# Altium footprint library Battery 18650 Holder SMD.PcbLib: 1 footprints
Each footprint in its own frame and in the unit in brackets; x right, y up, seen from the top. Pads: shape width x height; smd on the part's side, far side on the other; paste and mask are expansions set on the pad; w line width, h text height; cw(c..) or ccw(c..) is an arc to the next point about the centre after c.
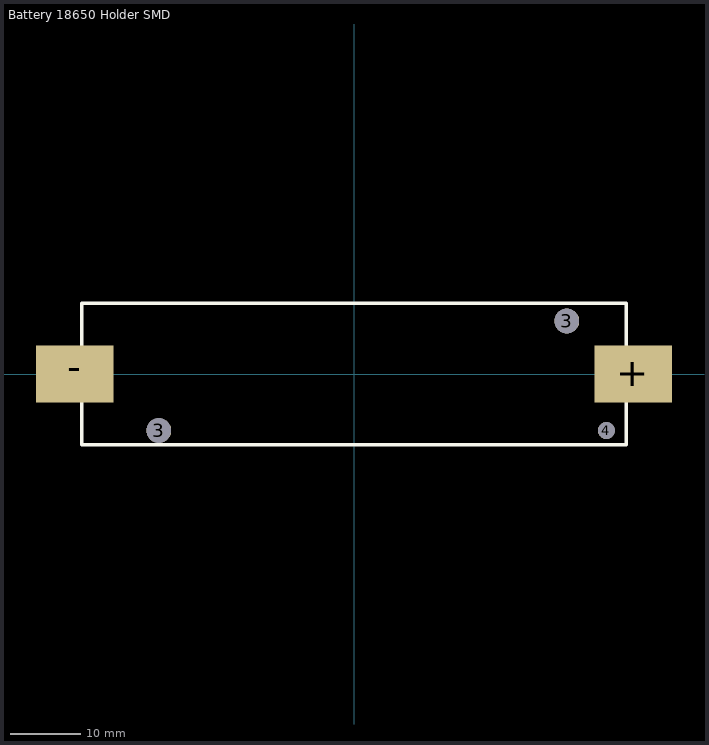
[diagram p0: the footprint, top view; thin cyan lines are the x and y axes]

## Battery 18650 Holder SMD [mm]
pads (5):
  round 3.5 hole 3.5: 3(-27.6,-8) 3(30.099,7.493)
  round 2.4 hole 2.4: 4(35.687,-8)
  rect 11x8 smd: +(39.5,0) -(-39.5,0)
Top Overlay:
  lines w0.5: -38.5,-10 -38.5,10 38.5,10 38.5,-10 -38.5,-10
3D body "18650 Single Cell Holder.STEP": height 21, standoff 0, extent -37.465,-10.459 37.535,10.541